# EAGLE library part L9616 (library st)
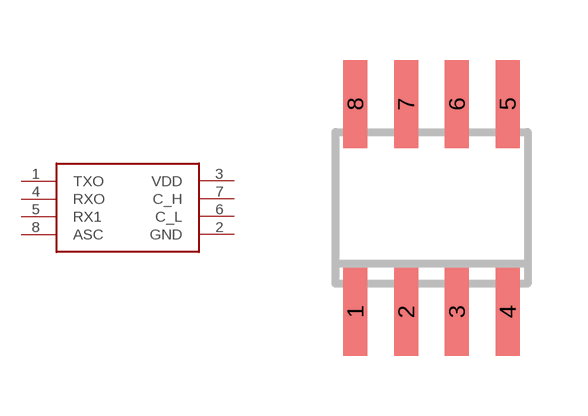
[diagram p1: symbol with the pads of SO8; footprint SO8]

Designator prefix -

## L9616  [SO8]
1  TXO
2  GND
3  VDD
4  RXO
5  RX1
6  C_L
7  C_H
8  ASC

## Footprint SO8 (pad centres in mm)
8-Lead Small Outline IC (SO-8) Source: http://www.analog.com/UploadedFiles/Data_Sheets/703465986AD8611_2_0.pdf
smd 0.6 x 2.2: 1 -1.905,-2.6; 2 -0.635,-2.6; 3 0.635,-2.6; 4 1.905,-2.6; 5 1.905,2.6; 6 0.635,2.6; 7 -0.635,2.6; 8 -1.905,2.6